# EAGLE library part DRV8872 (library PP_PowerIC)
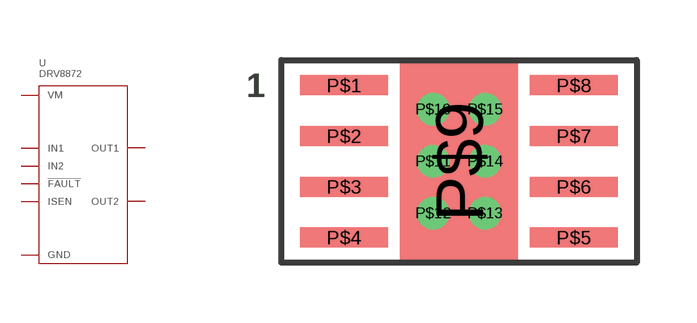
[diagram p13: symbol with the pads of DRV8872_HSOP-8; footprint DRV8872_HSOP-8]

Designator prefix U

## DRV8872DDARQ1  [DRV8872_HSOP-8]
P$1  GND
P$2  IN2
P$3  IN1
P$4  !FAULT
P$5  VM
P$6  OUT1
P$7  ISEN
P$8  OUT2
P$9  GND
P$10  GND
P$11  GND
P$12  GND
P$13  GND
P$14  GND
P$15  GND

## Footprint DRV8872_HSOP-8 (pad centres in mm)
smd 2.2 x 0.5: P$1 -2.875,1.905; P$2 -2.875,0.635; P$3 -2.875,-0.635; P$4 -2.875,-1.905; P$5 2.875,-1.905; P$6 2.875,-0.635; P$7 2.875,0.635; P$8 2.875,1.905
smd 2.95 x 4.9: P$9 0,0
drill 0.305 pad 0.406: P$10 -0.65,1.3; P$11 -0.65,0; P$12 -0.65,-1.3; P$13 0.65,-1.3; P$14 0.65,0; P$15 0.65,1.3